# Altium integrated library Linear Technology Comparators.IntLib: 630 symbols (part 14 of 24)
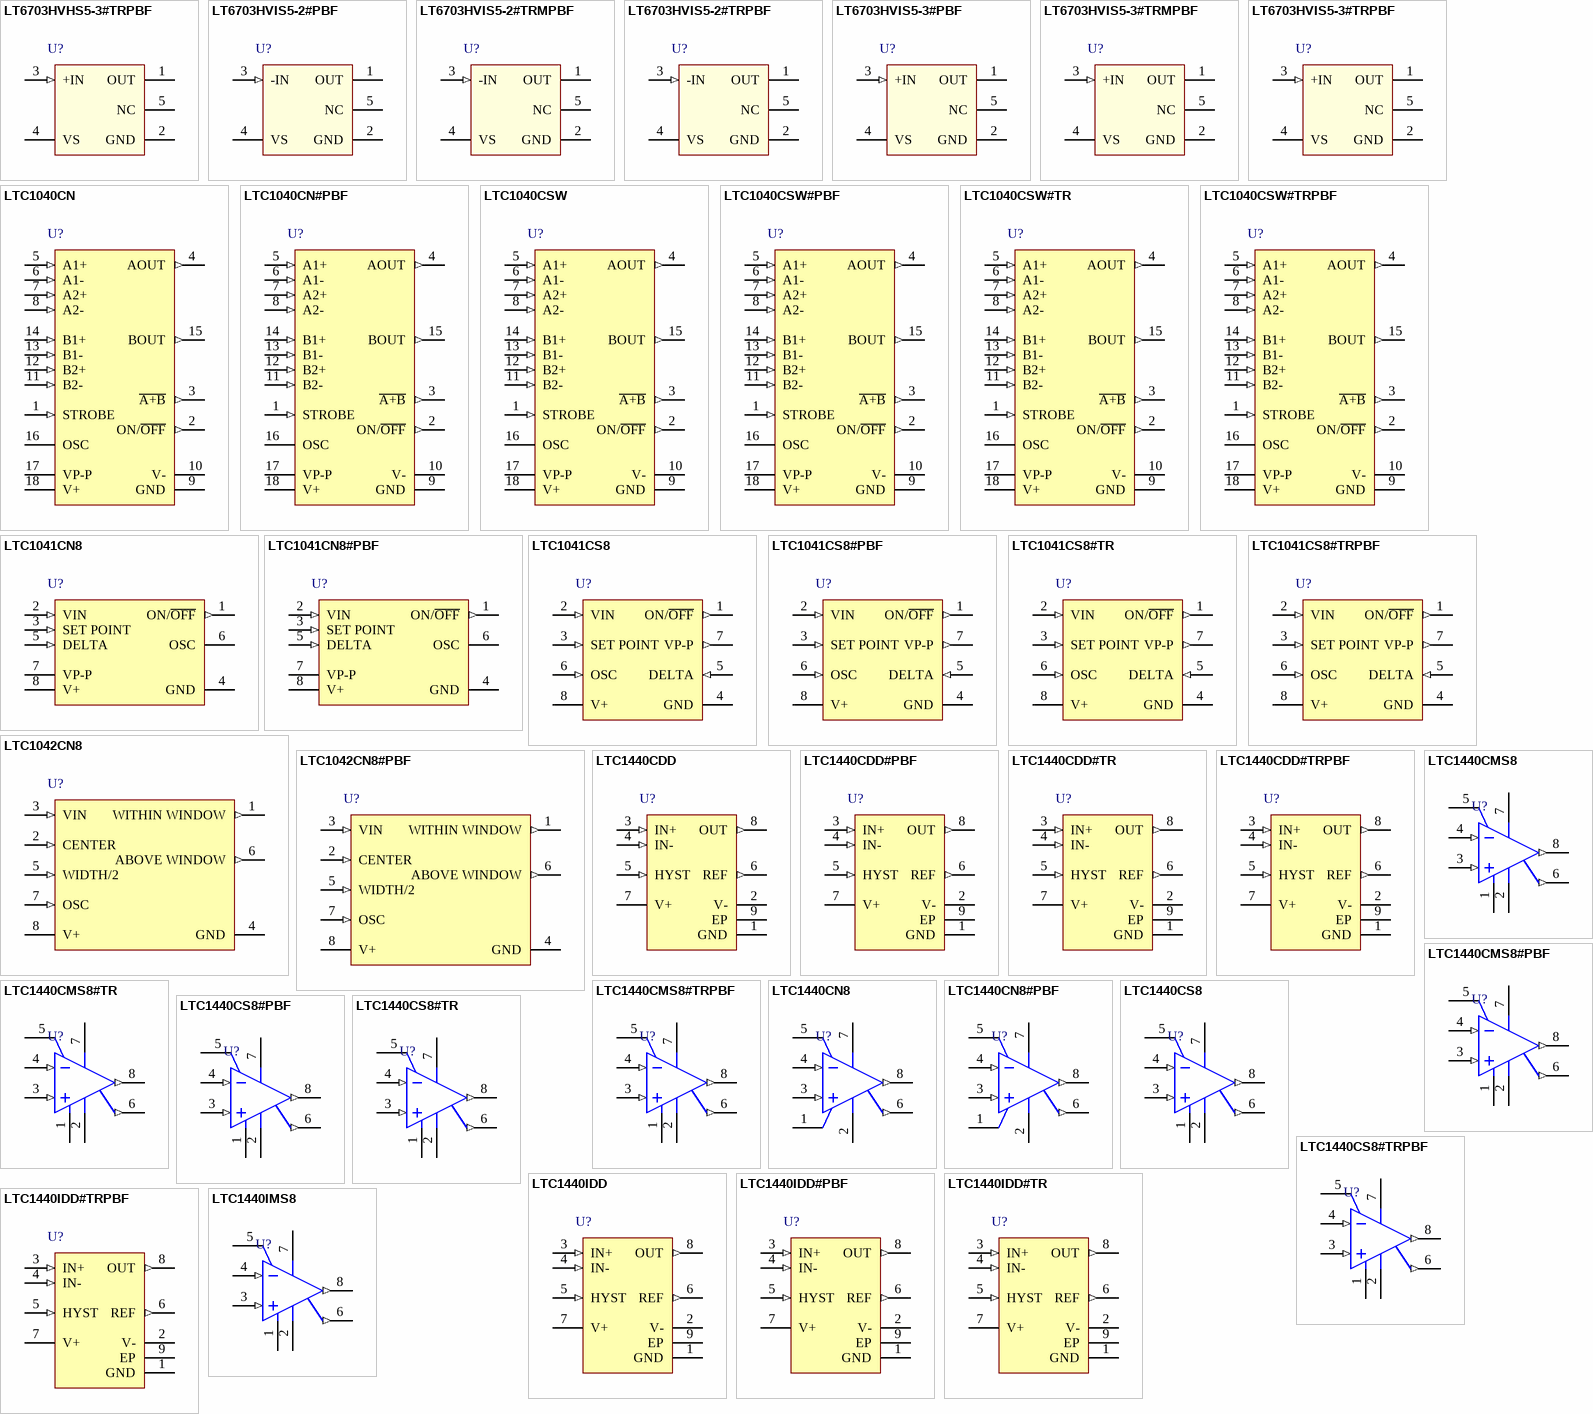
[diagram p37: symbols LT6703HVHS5-3#TRPBF to LTC1440IMS8]

## LTC1440CDD
designator U?
Ultralow Power Comparator with Reference, 1 Channel, 2 to 11 V, 0 to +70 degC, 8-pin DFN (DD8); Generic Part Number: LTC1440; Manufacturer: Linear Technology; PartNumber: LTC1440CDD; Channels (#): 1; Prop Delay (us): 8; Supply Current (uA) Guaranteed: 3.9; Supply Current (uA) Typical: 2; Supply Voltage Range: 2 to 11 V; Vos (mV) Guaranteed: 10; Vos (mV) Typical: 3; Vs Max (V): 11; DatasheetVersion: Rev D; PackageReference: DD8; PackageDescription: 8-Pin Plastic DFN, Body 3 × 3 mm, Pitch 0.5 mm; Features: Comparator, Reference, Comparator; RoHS: N; Vs Min (V): 2; Mounting Technology: Surface Mount; Code_JEDEC: M0-229; ComponentLink1Description: Manufacturer URL; ComponentLink1URL: http://www.linear.com/; ComponentLink2Description: Datasheet; ComponentLink2URL: http://cds.linear.com/docs/en/datasheet/144012fd.pdf; ComponentLink3Description: Package Specification; ComponentLink3URL: http://cds.linear.com/docs/en/packaging/DFN_8_05-08-1698.pdf
footprint LT-DD8_V (SON, 8-Leads, Body 3x3mm, Pitch 0.5mm, Thermal Pad 2.38x1.65mm)
pins: 1 GND (power) "Ground. Connect to V- for single supply operation.", 2 V- (power) "Negative Supply. Connect to ground for single supply operation. Potential should be more negative than GND.", 3 IN+ (in) "Noninverting Comparator Input. Input common mode range from V- to V+ -1.3V. Input current typically 10pA at 25degreesC.", 4 IN- (in) "Inverting Comparator Input. Input common mode range from V- to V + -1.3V. Input current typically 10pA at 25degreesC.", 5 HYST (in) "Hysteresis Input. Connect to REF if not used. Input voltage range is from VREF to VREF - 50mV.", 6 REF (out) "Reference Output. 1.182V with respect to V -. Can source up to 200uA and sink 15uA at 25degreesC. Drive 0.01uF bypass capacitor without oscillation.", 7 V+ (power) "Positive Supply. 2V to 11V.", 8 OUT (out) "Comparator CMOS Output. Swings from GND to V +. Output can source up to 40mA and sink 5mA.", 9 EP

## LTC1440CDD#PBF
designator U?
Ultralow Power Comparator with Reference, 1 Channel, 2 to 11 V, 0 to +70 degC, 8-pin DFN (DD8); Generic Part Number: LTC1440; Manufacturer: Linear Technology; PartNumber: LTC1440CDD#PBF; Channels (#): 1; Prop Delay (us): 8; Supply Current (uA) Guaranteed: 3.9; Supply Current (uA) Typical: 2; Supply Voltage Range: 2 to 11 V; Vos (mV) Guaranteed: 10; Vos (mV) Typical: 3; Vs Max (V): 11; DatasheetVersion: Rev D; PackageReference: DD8; PackageDescription: 8-Pin Plastic DFN, Body 3 × 3 mm, Pitch 0.5 mm; Supplier 1: Digi-Key; Supplier Part Number 1: LTC1440CDD#PBF-ND; Features: Comparator, Reference, Comparator; RoHS: Y; Vs Min (V): 2; Mounting Technology: Surface Mount; Code_JEDEC: M0-229; ComponentLink1Description: Manufacturer URL; ComponentLink1URL: http://www.linear.com/; ComponentLink2Description: Datasheet; ComponentLink2URL: http://cds.linear.com/docs/en/datasheet/144012fd.pdf; ComponentLink3Description: Package Specification; ComponentLink3URL: http://cds.linear.com/docs/en/packaging/DFN_8_05-08-1698.pdf
footprint LT-DD8_V (SON, 8-Leads, Body 3x3mm, Pitch 0.5mm, Thermal Pad 2.38x1.65mm)
pins: 1 GND (power) "Ground. Connect to V- for single supply operation.", 2 V- (power) "Negative Supply. Connect to ground for single supply operation. Potential should be more negative than GND.", 3 IN+ (in) "Noninverting Comparator Input. Input common mode range from V- to V+ -1.3V. Input current typically 10pA at 25degreesC.", 4 IN- (in) "Inverting Comparator Input. Input common mode range from V- to V + -1.3V. Input current typically 10pA at 25degreesC.", 5 HYST (in) "Hysteresis Input. Connect to REF if not used. Input voltage range is from VREF to VREF - 50mV.", 6 REF (out) "Reference Output. 1.182V with respect to V -. Can source up to 200uA and sink 15uA at 25degreesC. Drive 0.01uF bypass capacitor without oscillation.", 7 V+ (power) "Positive Supply. 2V to 11V.", 8 OUT (out) "Comparator CMOS Output. Swings from GND to V +. Output can source up to 40mA and sink 5mA.", 9 EP

## LTC1440CDD#TR
designator U?
Ultralow Power Comparator with Reference, 1 Channel, 2 to 11 V, 0 to +70 degC, 8-pin DFN (DD8), Tape and Reel; Generic Part Number: LTC1440; Manufacturer: Linear Technology; PartNumber: LTC1440CDD#TR; Channels (#): 1; Prop Delay (us): 8; Supply Current (uA) Guaranteed: 3.9; Supply Current (uA) Typical: 2; Supply Voltage Range: 2 to 11 V; Vos (mV) Guaranteed: 10; Vos (mV) Typical: 3; Vs Max (V): 11; DatasheetVersion: Rev D; PackageReference: DD8; PackageDescription: 8-Pin Plastic DFN, Body 3 × 3 mm, Pitch 0.5 mm; Features: Comparator, Reference, Comparator; RoHS: N; Vs Min (V): 2; Mounting Technology: Surface Mount; Code_JEDEC: M0-229; ComponentLink1Description: Manufacturer URL; ComponentLink1URL: http://www.linear.com/; ComponentLink2Description: Datasheet; ComponentLink2URL: http://cds.linear.com/docs/en/datasheet/144012fd.pdf; ComponentLink3Description: Package Specification; ComponentLink3URL: http://cds.linear.com/docs/en/packaging/DFN_8_05-08-1698.pdf
footprint LT-DD8_V (SON, 8-Leads, Body 3x3mm, Pitch 0.5mm, Thermal Pad 2.38x1.65mm)
pins: 1 GND (power) "Ground. Connect to V- for single supply operation.", 2 V- (power) "Negative Supply. Connect to ground for single supply operation. Potential should be more negative than GND.", 3 IN+ (in) "Noninverting Comparator Input. Input common mode range from V- to V+ -1.3V. Input current typically 10pA at 25degreesC.", 4 IN- (in) "Inverting Comparator Input. Input common mode range from V- to V + -1.3V. Input current typically 10pA at 25degreesC.", 5 HYST (in) "Hysteresis Input. Connect to REF if not used. Input voltage range is from VREF to VREF - 50mV.", 6 REF (out) "Reference Output. 1.182V with respect to V -. Can source up to 200uA and sink 15uA at 25degreesC. Drive 0.01uF bypass capacitor without oscillation.", 7 V+ (power) "Positive Supply. 2V to 11V.", 8 OUT (out) "Comparator CMOS Output. Swings from GND to V +. Output can source up to 40mA and sink 5mA.", 9 EP

## LTC1440CDD#TRPBF
designator U?
Ultralow Power Comparator with Reference, 1 Channel, 2 to 11 V, 0 to +70 degC, 8-pin DFN (DD8), Tape and Reel; Generic Part Number: LTC1440; Manufacturer: Linear Technology; PartNumber: LTC1440CDD#TRPBF; Channels (#): 1; Prop Delay (us): 8; Supply Current (uA) Guaranteed: 3.9; Supply Current (uA) Typical: 2; Supply Voltage Range: 2 to 11 V; Vos (mV) Guaranteed: 10; Vos (mV) Typical: 3; Vs Max (V): 11; DatasheetVersion: Rev D; PackageReference: DD8; PackageDescription: 8-Pin Plastic DFN, Body 3 × 3 mm, Pitch 0.5 mm; Supplier 1: Digi-Key; Supplier Part Number 1: LTC1440CDD#TRPBF-ND; Features: Comparator, Reference, Comparator; RoHS: Y; Vs Min (V): 2; Mounting Technology: Surface Mount; Code_JEDEC: M0-229; ComponentLink1Description: Manufacturer URL; ComponentLink1URL: http://www.linear.com/; ComponentLink2Description: Datasheet; ComponentLink2URL: http://cds.linear.com/docs/en/datasheet/144012fd.pdf; ComponentLink3Description: Package Specification; ComponentLink3URL: http://cds.linear.com/docs/en/packaging/DFN_8_05-08-1698.pdf
footprint LT-DD8_V (SON, 8-Leads, Body 3x3mm, Pitch 0.5mm, Thermal Pad 2.38x1.65mm)
pins: 1 GND (power) "Ground. Connect to V- for single supply operation.", 2 V- (power) "Negative Supply. Connect to ground for single supply operation. Potential should be more negative than GND.", 3 IN+ (in) "Noninverting Comparator Input. Input common mode range from V- to V+ -1.3V. Input current typically 10pA at 25degreesC.", 4 IN- (in) "Inverting Comparator Input. Input common mode range from V- to V + -1.3V. Input current typically 10pA at 25degreesC.", 5 HYST (in) "Hysteresis Input. Connect to REF if not used. Input voltage range is from VREF to VREF - 50mV.", 6 REF (out) "Reference Output. 1.182V with respect to V -. Can source up to 200uA and sink 15uA at 25degreesC. Drive 0.01uF bypass capacitor without oscillation.", 7 V+ (power) "Positive Supply. 2V to 11V.", 8 OUT (out) "Comparator CMOS Output. Swings from GND to V +. Output can source up to 40mA and sink 5mA.", 9 EP

## LTC1440CMS8
designator U?
Ultralow Power Comparator with Reference, 1 Channel, 2 to 11 V, 0 to +70 degC, 8-pin MSOP (MS8); Generic Part Number: LTC1440; Manufacturer: Linear Technology; PartNumber: LTC1440CMS8; Channels (#): 1; Prop Delay (us): 8; Supply Current (uA) Guaranteed: 3.9; Supply Current (uA) Typical: 2; Supply Voltage Range: 2 to 11 V; Vos (mV) Guaranteed: 10; Vos (mV) Typical: 3; Vs Max (V): 11; DatasheetVersion: Rev D; PackageReference: MS8; PackageDescription: 8-Pin Plastic MSOP, Body 3 x 3 mm, Pitch 0.65 mm; Supplier 1: Digi-Key; Supplier Part Number 1: LTC1440CMS8-ND; Supplier 2: Newark; Supplier Part Number 2: 56M1180; Features: Comparator, Reference, Comparator; RoHS: N; Vs Min (V): 2; Mounting Technology: Surface Mount; ComponentLink1Description: Manufacturer URL; ComponentLink1URL: http://www.linear.com/; ComponentLink2Description: Datasheet; ComponentLink2URL: http://cds.linear.com/docs/en/datasheet/144012fd.pdf; ComponentLink3Description: Package Specification; ComponentLink3URL: http://cds.linear.com/docs/en/packaging/MSOP_8_05-08-1660.pdf
footprint LT-MS8_N (SOP, 8-Leads, Body 3x3mm, Pitch 0.65mm, IPC Medium Density)
footprint LT-MS8_L (SOP, 8-Leads, Body 3x3mm, Pitch 0.65mm, IPC High Density)
footprint LT-MS8_M (SOP, 8-Leads, Body 3x3mm, Pitch 0.65mm, IPC Low Density)
pins: 1 GND (power), 2 V- (power), 3 IN+ (in), 4 IN- (in), 5 HYST, 6 REF (out), 7 V+ (power), 8 OUT (out)

## LTC1440CMS8#PBF
designator U?
Ultralow Power Comparator with Reference, 1 Channel, 2 to 11 V, 0 to +70 degC, 8-pin MSOP (MS8); Generic Part Number: LTC1440; Manufacturer: Linear Technology; PartNumber: LTC1440CMS8#PBF; Channels (#): 1; Prop Delay (us): 8; Supply Current (uA) Guaranteed: 3.9; Supply Current (uA) Typical: 2; Supply Voltage Range: 2 to 11 V; Vos (mV) Guaranteed: 10; Vos (mV) Typical: 3; Vs Max (V): 11; DatasheetVersion: Rev D; PackageReference: MS8; PackageDescription: 8-Pin Plastic MSOP, Body 3 x 3 mm, Pitch 0.65 mm; Supplier 1: Digi-Key; Supplier Part Number 1: LTC1440CMS8#PBF-ND; Supplier 2: Newark; Supplier Part Number 2: 56M1181; Features: Comparator, Reference, Comparator; RoHS: Y; Vs Min (V): 2; Mounting Technology: Surface Mount; ComponentLink1Description: Manufacturer URL; ComponentLink1URL: http://www.linear.com/; ComponentLink2Description: Datasheet; ComponentLink2URL: http://cds.linear.com/docs/en/datasheet/144012fd.pdf; ComponentLink3Description: Package Specification; ComponentLink3URL: http://cds.linear.com/docs/en/packaging/MSOP_8_05-08-1660.pdf
footprint LT-MS8_N (SOP, 8-Leads, Body 3x3mm, Pitch 0.65mm, IPC Medium Density)
footprint LT-MS8_L (SOP, 8-Leads, Body 3x3mm, Pitch 0.65mm, IPC High Density)
footprint LT-MS8_M (SOP, 8-Leads, Body 3x3mm, Pitch 0.65mm, IPC Low Density)
pins: 1 GND (power), 2 V- (power), 3 IN+ (in), 4 IN- (in), 5 HYST, 6 REF (out), 7 V+ (power), 8 OUT (out)

## LTC1440CMS8#TR
designator U?
Ultralow Power Comparator with Reference, 1 Channel, 2 to 11 V, 0 to +70 degC, 8-pin MSOP (MS8), Tape and Reel; Generic Part Number: LTC1440; Manufacturer: Linear Technology; PartNumber: LTC1440CMS8#TR; Channels (#): 1; Prop Delay (us): 8; Supply Current (uA) Guaranteed: 3.9; Supply Current (uA) Typical: 2.0; Supply Voltage Range: 2 to 11 V; Vos (mV) Guaranteed: 10; Vos (mV) Typical: 3; Vs Max (V): 11; Vs Min (V): 2; DatasheetVersion: Rev D; PackageReference: MS8; PackageDescription: 8-Pin Plastic MSOP, Body 3 x 3 mm, Pitch 0.65 mm; Supplier 1: Digi-Key; Supplier Part Number 1: LTC1440CMS8#TR-ND; Features: Comparator, Reference, Comparator; RoHS: N; Mounting Technology: Surface Mount; ComponentLink1Description: Manufacturer URL; ComponentLink1URL: http://www.linear.com/; ComponentLink2Description: Datasheet; ComponentLink2URL: http://cds.linear.com/docs/en/datasheet/144012fd.pdf; ComponentLink3Description: Package Specification; ComponentLink3URL: http://cds.linear.com/docs/en/packaging/MSOP_8_05-08-1660.pdf
footprint LT-MS8_N (SOP, 8-Leads, Body 3x3mm, Pitch 0.65mm, IPC Medium Density)
footprint LT-MS8_L (SOP, 8-Leads, Body 3x3mm, Pitch 0.65mm, IPC High Density)
footprint LT-MS8_M (SOP, 8-Leads, Body 3x3mm, Pitch 0.65mm, IPC Low Density)
pins: 1 GND (power), 2 V- (power), 3 IN+ (in), 4 IN- (in), 5 HYST, 6 REF (out), 7 V+ (power), 8 OUT (out)

## LTC1440CMS8#TRPBF
designator U?
Ultralow Power Comparator with Reference, 1 Channel, 2 to 11 V, 0 to +70 degC, 8-pin MSOP (MS8), Tape and Reel; Generic Part Number: LTC1440; Manufacturer: Linear Technology; PartNumber: LTC1440CMS8#TRPBF; Channels (#): 1; Prop Delay (us): 8; Supply Current (uA) Guaranteed: 3.9; Supply Current (uA) Typical: 2; Supply Voltage Range: 2 to 11 V; Vos (mV) Guaranteed: 10; Vos (mV) Typical: 3; Vs Max (V): 11; DatasheetVersion: Rev D; PackageReference: MS8; PackageDescription: 8-Pin Plastic MSOP, Body 3 x 3 mm, Pitch 0.65 mm; Supplier 1: Digi-Key; Supplier Part Number 1: LTC1440CMS8#TRPBF-ND; Supplier 2: Newark; Supplier Part Number 2: 56M1183; Features: Comparator, Reference, Comparator; RoHS: Y; Vs Min (V): 2; Mounting Technology: Surface Mount; ComponentLink1Description: Manufacturer URL; ComponentLink1URL: http://www.linear.com/; ComponentLink2Description: Datasheet; ComponentLink2URL: http://cds.linear.com/docs/en/datasheet/144012fd.pdf; ComponentLink3Description: Package Specification; ComponentLink3URL: http://cds.linear.com/docs/en/packaging/MSOP_8_05-08-1660.pdf
footprint LT-MS8_N (SOP, 8-Leads, Body 3x3mm, Pitch 0.65mm, IPC Medium Density)
footprint LT-MS8_L (SOP, 8-Leads, Body 3x3mm, Pitch 0.65mm, IPC High Density)
footprint LT-MS8_M (SOP, 8-Leads, Body 3x3mm, Pitch 0.65mm, IPC Low Density)
pins: 1 GND (power), 2 V- (power), 3 IN+ (in), 4 IN- (in), 5 HYST, 6 REF (out), 7 V+ (power), 8 OUT (out)

## LTC1440CN8
designator U?
Ultralow Power Comparator with Reference, 1 Channel, 2 to 11 V, 0 to +70 degC, 8-pin PDIP (N8); Generic Part Number: LTC1440; Manufacturer: Linear Technology; PartNumber: LTC1440CN8; Channels (#): 1; Prop Delay (us): 8; Supply Current (uA) Guaranteed: 3.9; Supply Current (uA) Typical: 2; Supply Voltage Range: 2 to 11 V; Vos (mV) Guaranteed: 10; Vos (mV) Typical: 3; Vs Max (V): 11; DatasheetVersion: Rev D; PackageReference: N8; PackageDescription: 8-Pin PDIP, Row Spacing 7.62, Pitch 2.54 mm; Supplier 1: Digi-Key; Supplier Part Number 1: LTC1440CN8-ND; Features: Comparator, Reference, Comparator; RoHS: N; Vs Min (V): 2; Mounting Technology: Through Hole; ComponentLink1Description: Manufacturer URL; ComponentLink1URL: http://www.linear.com/; ComponentLink2Description: Datasheet; ComponentLink2URL: http://cds.linear.com/docs/en/datasheet/144012fd.pdf; ComponentLink3Description: Package Specification; ComponentLink3URL: http://cds.linear.com/docs/en/packaging/05081510_I_N8.pdf
footprint LT-N8 (DIP, 8-Leads, Body 10.16x6.477mm, Pitch 2.54mm)
pins: 1 GND (power) "Ground. Connect to V- for single supply operation.", 2 V- (power) "Negative Supply. Connect to ground for single supply operation. Potential should be more negative than GND.", 3 IN+ (in) "Noninverting Comparator Input. Input common mode range from V- to V+ -1.3V. Input current typically 10pA at 25degreesC.", 4 IN- (in) "Inverting Comparator Input. Input common mode range from V- to V + -1.3V. Input current typically 10pA at 25degreesC.", 5 HYST "Hysteresis Input. Connect to REF if not used. Input voltage range is from VREF to VREF - 50mV.", 6 REF (out) "Reference Output. 1.182V with respect to V -. Can source up to 200uA and sink 15uA at 25degreesC. Drive 0.01uF bypass capacitor without oscillation.", 7 V+ (power) "Positive Supply. 2V to 11V.", 8 OUT (out) "Comparator CMOS Output. Swings from GND to V +. Output can source up to 40mA and sink 5mA."

## LTC1440CN8#PBF
designator U?
Ultralow Power Comparator with Reference, 1 Channel, 2 to 11 V, 0 to +70 degC, 8-pin PDIP (N8); Generic Part Number: LTC1440; Manufacturer: Linear Technology; PartNumber: LTC1440CN8#PBF; Channels (#): 1; Prop Delay (us): 8; Supply Current (uA) Guaranteed: 3.9; Supply Current (uA) Typical: 2; Supply Voltage Range: 2 to 11 V; Vos (mV) Guaranteed: 10; Vos (mV) Typical: 3; Vs Max (V): 11; DatasheetVersion: Rev D; PackageReference: N8; PackageDescription: 8-Pin PDIP, Row Spacing 7.62, Pitch 2.54 mm; Supplier 1: Digi-Key; Supplier Part Number 1: LTC1440CN8#PBF-ND; Supplier 2: Farnell; Supplier Part Number 2: 1136643; Supplier 3: Newark; Supplier Part Number 3: 56M1185; Features: Comparator, Reference, Comparator; RoHS: Y; Vs Min (V): 2; Mounting Technology: Through Hole; ComponentLink1Description: Manufacturer URL; ComponentLink1URL: http://www.linear.com/; ComponentLink2Description: Datasheet; ComponentLink2URL: http://cds.linear.com/docs/en/datasheet/144012fd.pdf; ComponentLink3Description: Package Specification; ComponentLink3URL: http://cds.linear.com/docs/en/packaging/05081510_I_N8.pdf
footprint LT-N8 (DIP, 8-Leads, Body 10.16x6.477mm, Pitch 2.54mm)
pins: 1 GND (power) "Ground. Connect to V- for single supply operation.", 2 V- (power) "Negative Supply. Connect to ground for single supply operation. Potential should be more negative than GND.", 3 IN+ (in) "Noninverting Comparator Input. Input common mode range from V- to V+ -1.3V. Input current typically 10pA at 25degreesC.", 4 IN- (in) "Inverting Comparator Input. Input common mode range from V- to V + -1.3V. Input current typically 10pA at 25degreesC.", 5 HYST "Hysteresis Input. Connect to REF if not used. Input voltage range is from VREF to VREF - 50mV.", 6 REF (out) "Reference Output. 1.182V with respect to V -. Can source up to 200uA and sink 15uA at 25degreesC. Drive 0.01uF bypass capacitor without oscillation.", 7 V+ (power) "Positive Supply. 2V to 11V.", 8 OUT (out) "Comparator CMOS Output. Swings from GND to V +. Output can source up to 40mA and sink 5mA."

## LTC1440CS8
designator U?
Ultralow Power Comparator with Reference, 1 Channel, 2 to 11 V, 0 to +70 degC, 8-pin SOP (S8); Generic Part Number: LTC1440; Manufacturer: Linear Technology; PartNumber: LTC1440CS8; Channels (#): 1; Prop Delay (us): 8; Supply Current (uA) Guaranteed: 3.9; Supply Current (uA) Typical: 2; Supply Voltage Range: 2 to 11 V; Vos (mV) Guaranteed: 10; Vos (mV) Typical: 3; Vs Max (V): 11; DatasheetVersion: Rev D; PackageReference: S8; PackageDescription: 8-Pin Plastic Small Outline (Narrow .150 Inch), Body 4.9 x 3.9 mm, Pitch 1.27 mm; Supplier 1: Digi-Key; Supplier Part Number 1: LTC1440CS8-ND; Features: Comparator, Reference, Comparator; RoHS: N; Vs Min (V): 2; Mounting Technology: Surface Mount; ComponentLink1Description: Manufacturer URL; ComponentLink1URL: http://www.linear.com/; ComponentLink2Description: Datasheet; ComponentLink2URL: http://cds.linear.com/docs/en/datasheet/144012fd.pdf; ComponentLink3Description: Package Specification; ComponentLink3URL: http://cds.linear.com/docs/en/packaging/05081610_G_SO8.pdf
footprint LT-S8_N (SOP, 8-Leads, Body 4.9x3.9mm, Pitch 1.27mm, IPC Medium Density)
footprint LT-S8_L (SOP, 8-Leads, Body 4.9x3.9mm, Pitch 1.27mm, IPC High Density)
footprint LT-S8_M (SOP, 8-Leads, Body 4.9x3.9mm, Pitch 1.27mm, IPC Low Density)
pins: 1 GND (power), 2 V- (power), 3 IN+ (in), 4 IN- (in), 5 HYST, 6 REF (out), 7 V+ (power), 8 OUT (out)

## LTC1440CS8#PBF
designator U?
Ultralow Power Comparator with Reference, 1 Channel, 2 to 11 V, 0 to +70 degC, 8-pin SOP (S8); Generic Part Number: LTC1440; Manufacturer: Linear Technology; PartNumber: LTC1440CS8#PBF; Channels (#): 1; Prop Delay (us): 8; Supply Current (uA) Guaranteed: 3.9; Supply Current (uA) Typical: 2; Supply Voltage Range: 2 to 11 V; Vos (mV) Guaranteed: 10; Vos (mV) Typical: 3; Vs Max (V): 11; DatasheetVersion: Rev D; PackageReference: S8; PackageDescription: 8-Pin Plastic Small Outline (Narrow .150 Inch), Body 4.9 x 3.9 mm, Pitch 1.27 mm; Supplier 1: Digi-Key; Supplier Part Number 1: LTC1440CS8#PBF-ND; Supplier 2: Farnell; Supplier Part Number 2: 9561145; Supplier 3: Newark; Supplier Part Number 3: 56M1187; Features: Comparator, Reference, Comparator; RoHS: Y; Vs Min (V): 2; Mounting Technology: Surface Mount; ComponentLink1Description: Manufacturer URL; ComponentLink1URL: http://www.linear.com/; ComponentLink2Description: Datasheet; ComponentLink2URL: http://cds.linear.com/docs/en/datasheet/144012fd.pdf; ComponentLink3Description: Package Specification; ComponentLink3URL: http://cds.linear.com/docs/en/packaging/05081610_G_SO8.pdf
footprint LT-S8_N (SOP, 8-Leads, Body 4.9x3.9mm, Pitch 1.27mm, IPC Medium Density)
footprint LT-S8_L (SOP, 8-Leads, Body 4.9x3.9mm, Pitch 1.27mm, IPC High Density)
footprint LT-S8_M (SOP, 8-Leads, Body 4.9x3.9mm, Pitch 1.27mm, IPC Low Density)
pins: 1 GND (power), 2 V- (power), 3 IN+ (in), 4 IN- (in), 5 HYST, 6 REF (out), 7 V+ (power), 8 OUT (out)

## LTC1440CS8#TR
designator U?
Ultralow Power Comparator with Reference, 1 Channel, 2 to 11 V, 0 to +70 degC, 8-pin SOP (S8), Tape and Reel; Generic Part Number: LTC1440; Manufacturer: Linear Technology; PartNumber: LTC1440CS8#TR; Channels (#): 1; Prop Delay (us): 8; Supply Current (uA) Guaranteed: 3.9; Supply Current (uA) Typical: 2; Supply Voltage Range: 2 to 11 V; Vos (mV) Guaranteed: 10; Vos (mV) Typical: 3; Vs Max (V): 11; DatasheetVersion: Rev D; PackageReference: S8; PackageDescription: 8-Pin Plastic Small Outline (Narrow .150 Inch), Body 4.9 x 3.9 mm, Pitch 1.27 mm; Supplier 1: Digi-Key; Supplier Part Number 1: LTC1440CS8#TR-ND; Features: Comparator, Reference, Comparator; RoHS: N; Vs Min (V): 2; Mounting Technology: Surface Mount; ComponentLink1Description: Manufacturer URL; ComponentLink1URL: http://www.linear.com/; ComponentLink2Description: Datasheet; ComponentLink2URL: http://cds.linear.com/docs/en/datasheet/144012fd.pdf; ComponentLink3Description: Package Specification; ComponentLink3URL: http://cds.linear.com/docs/en/packaging/05081610_G_SO8.pdf
footprint LT-S8_N (SOP, 8-Leads, Body 4.9x3.9mm, Pitch 1.27mm, IPC Medium Density)
footprint LT-S8_L (SOP, 8-Leads, Body 4.9x3.9mm, Pitch 1.27mm, IPC High Density)
footprint LT-S8_M (SOP, 8-Leads, Body 4.9x3.9mm, Pitch 1.27mm, IPC Low Density)
pins: 1 GND (power), 2 V- (power), 3 IN+ (in), 4 IN- (in), 5 HYST, 6 REF (out), 7 V+ (power), 8 OUT (out)

## LTC1440CS8#TRPBF
designator U?
Ultralow Power Comparator with Reference, 1 Channel, 2 to 11 V, 0 to +70 degC, 8-pin SOP (S8), Tape and Reel; Generic Part Number: LTC1440; Manufacturer: Linear Technology; PartNumber: LTC1440CS8#TRPBF; Channels (#): 1; Prop Delay (us): 8; Supply Current (uA) Guaranteed: 3.9; Supply Current (uA) Typical: 2; Supply Voltage Range: 2 to 11 V; Vos (mV) Guaranteed: 10; Vos (mV) Typical: 3; Vs Max (V): 11; DatasheetVersion: Rev D; PackageReference: S8; PackageDescription: 8-Pin Plastic Small Outline (Narrow .150 Inch), Body 4.9 x 3.9 mm, Pitch 1.27 mm; Supplier 1: Digi-Key; Supplier Part Number 1: LTC1440CS8#TRPBF-ND; Supplier 2: Newark; Supplier Part Number 2: 56M1189; Features: Comparator, Reference, Comparator; RoHS: Y; Vs Min (V): 2; Mounting Technology: Surface Mount; ComponentLink1Description: Manufacturer URL; ComponentLink1URL: http://www.linear.com/; ComponentLink2Description: Datasheet; ComponentLink2URL: http://cds.linear.com/docs/en/datasheet/144012fd.pdf; ComponentLink3Description: Package Specification; ComponentLink3URL: http://cds.linear.com/docs/en/packaging/05081610_G_SO8.pdf
footprint LT-S8_N (SOP, 8-Leads, Body 4.9x3.9mm, Pitch 1.27mm, IPC Medium Density)
footprint LT-S8_L (SOP, 8-Leads, Body 4.9x3.9mm, Pitch 1.27mm, IPC High Density)
footprint LT-S8_M (SOP, 8-Leads, Body 4.9x3.9mm, Pitch 1.27mm, IPC Low Density)
pins: 1 GND (power), 2 V- (power), 3 IN+ (in), 4 IN- (in), 5 HYST, 6 REF (out), 7 V+ (power), 8 OUT (out)

## LTC1440IDD
designator U?
Ultralow Power Comparator with Reference, 1 Channel, 2 to 11 V, -40 to +85 degC, 8-pin DFN (DD8); Generic Part Number: LTC1440; Manufacturer: Linear Technology; PartNumber: LTC1440IDD; Channels (#): 1; Prop Delay (us): 8; Supply Current (uA) Guaranteed: 3.9; Supply Current (uA) Typical: 2; Supply Voltage Range: 2 to 11 V; Vos (mV) Guaranteed: 10; Vos (mV) Typical: 3; Vs Max (V): 11; DatasheetVersion: Rev D; PackageReference: DD8; PackageDescription: 8-Pin Plastic DFN, Body 3 × 3 mm, Pitch 0.5 mm; Supplier 1: Newark; Supplier Part Number 1: 56M1190; Features: Comparator, Reference, Comparator; RoHS: N; Vs Min (V): 2; Mounting Technology: Surface Mount; Code_JEDEC: M0-229; ComponentLink1Description: Manufacturer URL; ComponentLink1URL: http://www.linear.com/; ComponentLink2Description: Datasheet; ComponentLink2URL: http://cds.linear.com/docs/en/datasheet/144012fd.pdf; ComponentLink3Description: Package Specification; ComponentLink3URL: http://cds.linear.com/docs/en/packaging/DFN_8_05-08-1698.pdf
footprint LT-DD8_V (SON, 8-Leads, Body 3x3mm, Pitch 0.5mm, Thermal Pad 2.38x1.65mm)
pins: 1 GND (power) "Ground. Connect to V- for single supply operation.", 2 V- (power) "Negative Supply. Connect to ground for single supply operation. Potential should be more negative than GND.", 3 IN+ (in) "Noninverting Comparator Input. Input common mode range from V- to V+ -1.3V. Input current typically 10pA at 25degreesC.", 4 IN- (in) "Inverting Comparator Input. Input common mode range from V- to V + -1.3V. Input current typically 10pA at 25degreesC.", 5 HYST (in) "Hysteresis Input. Connect to REF if not used. Input voltage range is from VREF to VREF - 50mV.", 6 REF (out) "Reference Output. 1.182V with respect to V -. Can source up to 200uA and sink 15uA at 25degreesC. Drive 0.01uF bypass capacitor without oscillation.", 7 V+ (power) "Positive Supply. 2V to 11V.", 8 OUT (out) "Comparator CMOS Output. Swings from GND to V +. Output can source up to 40mA and sink 5mA.", 9 EP

## LTC1440IDD#PBF
designator U?
Ultralow Power Comparator with Reference, 1 Channel, 2 to 11 V, -40 to +85 degC, 8-pin DFN (DD8); Generic Part Number: LTC1440; Manufacturer: Linear Technology; PartNumber: LTC1440IDD#PBF; Channels (#): 1; Prop Delay (us): 8; Supply Current (uA) Guaranteed: 3.9; Supply Current (uA) Typical: 2; Supply Voltage Range: 2 to 11 V; Vos (mV) Guaranteed: 10; Vos (mV) Typical: 3; Vs Max (V): 11; DatasheetVersion: Rev D; PackageReference: DD8; PackageDescription: 8-Pin Plastic DFN, Body 3 × 3 mm, Pitch 0.5 mm; Supplier 1: Digi-Key; Supplier Part Number 1: LTC1440IDD#PBF-ND; Supplier 2: Newark; Supplier Part Number 2: 56M1191; Features: Comparator, Reference, Comparator; RoHS: Y; Vs Min (V): 2; Mounting Technology: Surface Mount; Code_JEDEC: M0-229; ComponentLink1Description: Manufacturer URL; ComponentLink1URL: http://www.linear.com/; ComponentLink2Description: Datasheet; ComponentLink2URL: http://cds.linear.com/docs/en/datasheet/144012fd.pdf; ComponentLink3Description: Package Specification; ComponentLink3URL: http://cds.linear.com/docs/en/packaging/DFN_8_05-08-1698.pdf
footprint LT-DD8_V (SON, 8-Leads, Body 3x3mm, Pitch 0.5mm, Thermal Pad 2.38x1.65mm)
pins: 1 GND (power) "Ground. Connect to V- for single supply operation.", 2 V- (power) "Negative Supply. Connect to ground for single supply operation. Potential should be more negative than GND.", 3 IN+ (in) "Noninverting Comparator Input. Input common mode range from V- to V+ -1.3V. Input current typically 10pA at 25degreesC.", 4 IN- (in) "Inverting Comparator Input. Input common mode range from V- to V + -1.3V. Input current typically 10pA at 25degreesC.", 5 HYST (in) "Hysteresis Input. Connect to REF if not used. Input voltage range is from VREF to VREF - 50mV.", 6 REF (out) "Reference Output. 1.182V with respect to V -. Can source up to 200uA and sink 15uA at 25degreesC. Drive 0.01uF bypass capacitor without oscillation.", 7 V+ (power) "Positive Supply. 2V to 11V.", 8 OUT (out) "Comparator CMOS Output. Swings from GND to V +. Output can source up to 40mA and sink 5mA.", 9 EP

## LTC1440IDD#TR
designator U?
Ultralow Power Comparator with Reference, 1 Channel, 2 to 11 V, -40 to +85 degC, 8-pin DFN (DD8), Tape and Reel; Generic Part Number: LTC1440; Manufacturer: Linear Technology; PartNumber: LTC1440IDD#TR; Channels (#): 1; Prop Delay (us): 8; Supply Current (uA) Guaranteed: 3.9; Supply Current (uA) Typical: 2; Supply Voltage Range: 2 to 11 V; Vos (mV) Guaranteed: 10; Vos (mV) Typical: 3; Vs Max (V): 11; DatasheetVersion: Rev D; PackageReference: DD8; PackageDescription: 8-Pin Plastic DFN, Body 3 × 3 mm, Pitch 0.5 mm; Features: Comparator, Reference, Comparator; RoHS: N; Vs Min (V): 2; Mounting Technology: Surface Mount; Code_JEDEC: M0-229; ComponentLink1Description: Manufacturer URL; ComponentLink1URL: http://www.linear.com/; ComponentLink2Description: Datasheet; ComponentLink2URL: http://cds.linear.com/docs/en/datasheet/144012fd.pdf; ComponentLink3Description: Package Specification; ComponentLink3URL: http://cds.linear.com/docs/en/packaging/DFN_8_05-08-1698.pdf
footprint LT-DD8_V (SON, 8-Leads, Body 3x3mm, Pitch 0.5mm, Thermal Pad 2.38x1.65mm)
pins: 1 GND (power) "Ground. Connect to V- for single supply operation.", 2 V- (power) "Negative Supply. Connect to ground for single supply operation. Potential should be more negative than GND.", 3 IN+ (in) "Noninverting Comparator Input. Input common mode range from V- to V+ -1.3V. Input current typically 10pA at 25degreesC.", 4 IN- (in) "Inverting Comparator Input. Input common mode range from V- to V + -1.3V. Input current typically 10pA at 25degreesC.", 5 HYST (in) "Hysteresis Input. Connect to REF if not used. Input voltage range is from VREF to VREF - 50mV.", 6 REF (out) "Reference Output. 1.182V with respect to V -. Can source up to 200uA and sink 15uA at 25degreesC. Drive 0.01uF bypass capacitor without oscillation.", 7 V+ (power) "Positive Supply. 2V to 11V.", 8 OUT (out) "Comparator CMOS Output. Swings from GND to V +. Output can source up to 40mA and sink 5mA.", 9 EP

## LTC1440IDD#TRPBF
designator U?
Ultralow Power Comparator with Reference, 1 Channel, 2 to 11 V, -40 to +85 degC, 8-pin DFN (DD8), Tape and Reel; Generic Part Number: LTC1440; Manufacturer: Linear Technology; PartNumber: LTC1440IDD#TRPBF; Channels (#): 1; Prop Delay (us): 8; Supply Current (uA) Guaranteed: 3.9; Supply Current (uA) Typical: 2; Supply Voltage Range: 2 to 11 V; Vos (mV) Guaranteed: 10; Vos (mV) Typical: 3; Vs Max (V): 11; DatasheetVersion: Rev D; PackageReference: DD8; PackageDescription: 8-Pin Plastic DFN, Body 3 × 3 mm, Pitch 0.5 mm; Supplier 1: Digi-Key; Supplier Part Number 1: LTC1440IDD#TRPBF-ND; Supplier 2: Newark; Supplier Part Number 2: 56M1193; Features: Comparator, Reference, Comparator; RoHS: Y; Vs Min (V): 2; Mounting Technology: Surface Mount; Code_JEDEC: M0-229; ComponentLink1Description: Manufacturer URL; ComponentLink1URL: http://www.linear.com/; ComponentLink2Description: Datasheet; ComponentLink2URL: http://cds.linear.com/docs/en/datasheet/144012fd.pdf; ComponentLink3Description: Package Specification; ComponentLink3URL: http://cds.linear.com/docs/en/packaging/DFN_8_05-08-1698.pdf
footprint LT-DD8_V (SON, 8-Leads, Body 3x3mm, Pitch 0.5mm, Thermal Pad 2.38x1.65mm)
pins: 1 GND (power) "Ground. Connect to V- for single supply operation.", 2 V- (power) "Negative Supply. Connect to ground for single supply operation. Potential should be more negative than GND.", 3 IN+ (in) "Noninverting Comparator Input. Input common mode range from V- to V+ -1.3V. Input current typically 10pA at 25degreesC.", 4 IN- (in) "Inverting Comparator Input. Input common mode range from V- to V + -1.3V. Input current typically 10pA at 25degreesC.", 5 HYST (in) "Hysteresis Input. Connect to REF if not used. Input voltage range is from VREF to VREF - 50mV.", 6 REF (out) "Reference Output. 1.182V with respect to V -. Can source up to 200uA and sink 15uA at 25degreesC. Drive 0.01uF bypass capacitor without oscillation.", 7 V+ (power) "Positive Supply. 2V to 11V.", 8 OUT (out) "Comparator CMOS Output. Swings from GND to V +. Output can source up to 40mA and sink 5mA.", 9 EP

## LTC1440IMS8
designator U?
Ultralow Power Comparator with Reference, 1 Channel, 2 to 11 V, -40 to +85 degC, 8-pin MSOP (MS8); Generic Part Number: LTC1440; Manufacturer: Linear Technology; PartNumber: LTC1440IMS8; Channels (#): 1; Prop Delay (us): 8; Supply Current (uA) Guaranteed: 3.9; Supply Current (uA) Typical: 2; Supply Voltage Range: 2 to 11 V; Vos (mV) Guaranteed: 10; Vos (mV) Typical: 3; Vs Max (V): 11; DatasheetVersion: Rev D; PackageReference: MS8; PackageDescription: 8-Pin Plastic MSOP, Body 3 x 3 mm, Pitch 0.65 mm; Supplier 1: Newark; Supplier Part Number 1: 56M1194; Features: Comparator, Reference, Comparator; RoHS: N; Vs Min (V): 2; Mounting Technology: Surface Mount; ComponentLink1Description: Manufacturer URL; ComponentLink1URL: http://www.linear.com/; ComponentLink2Description: Datasheet; ComponentLink2URL: http://cds.linear.com/docs/en/datasheet/144012fd.pdf; ComponentLink3Description: Package Specification; ComponentLink3URL: http://cds.linear.com/docs/en/packaging/MSOP_8_05-08-1660.pdf
footprint LT-MS8_N (SOP, 8-Leads, Body 3x3mm, Pitch 0.65mm, IPC Medium Density)
footprint LT-MS8_L (SOP, 8-Leads, Body 3x3mm, Pitch 0.65mm, IPC High Density)
footprint LT-MS8_M (SOP, 8-Leads, Body 3x3mm, Pitch 0.65mm, IPC Low Density)
pins: 1 GND (power), 2 V- (power), 3 IN+ (in), 4 IN- (in), 5 HYST, 6 REF (out), 7 V+ (power), 8 OUT (out)

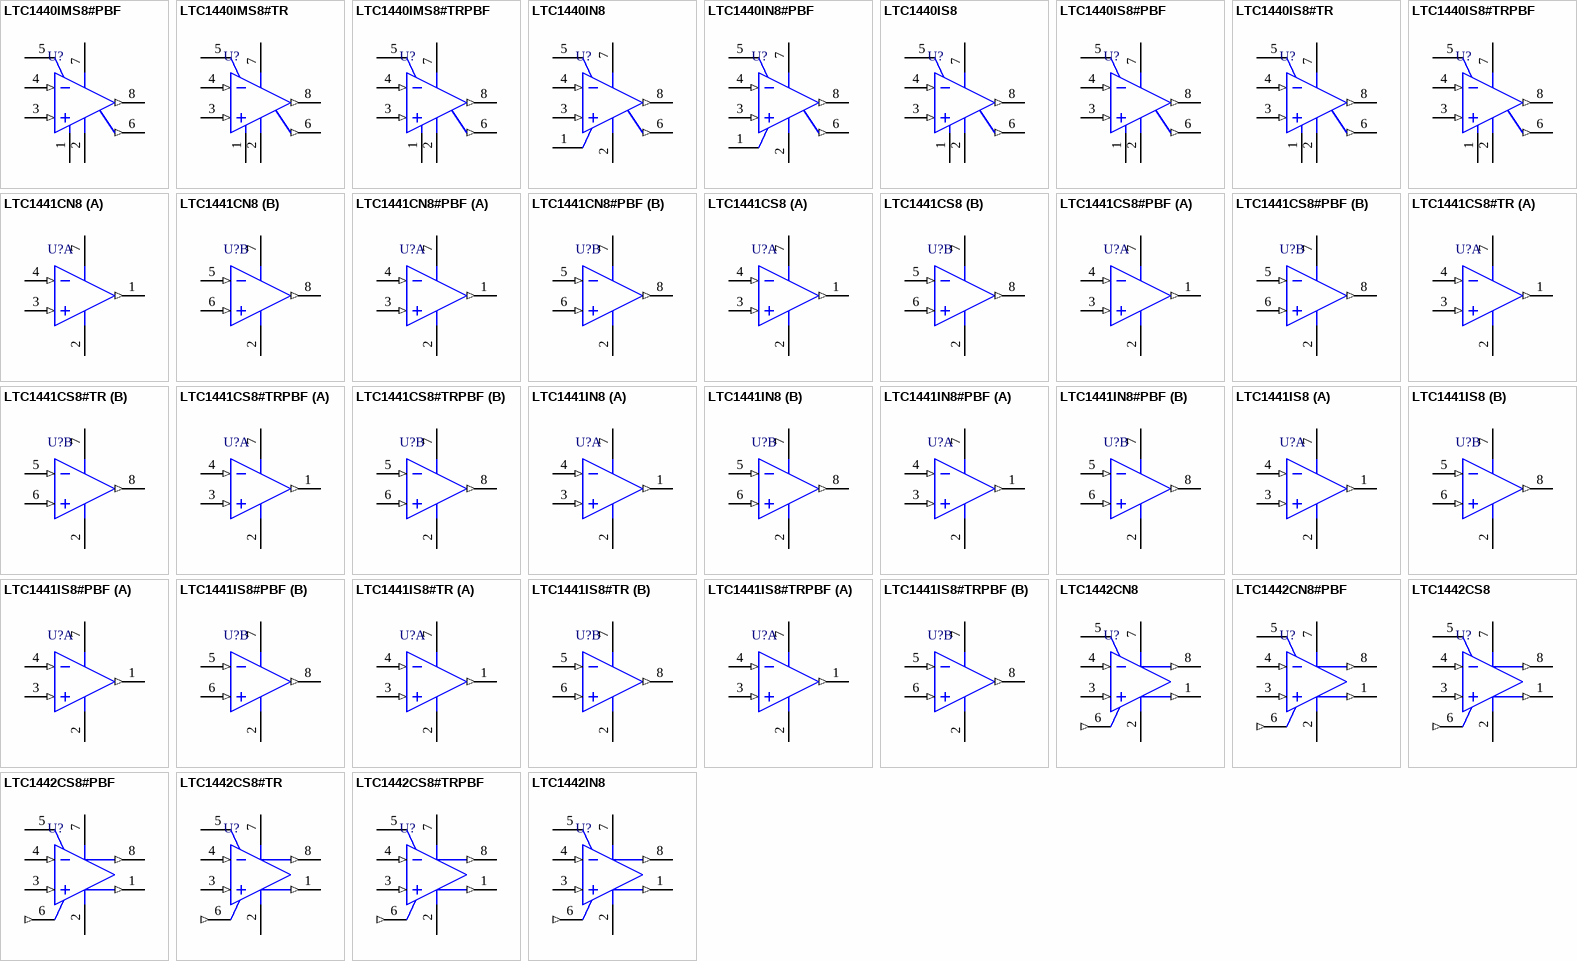
[diagram p13: symbols LTC1440IMS8#PBF to LTC1442IN8]

## LTC1440IMS8#PBF
designator U?
Ultralow Power Comparator with Reference, 1 Channel, 2 to 11 V, -40 to +85 degC, 8-pin MSOP (MS8); Generic Part Number: LTC1440; Manufacturer: Linear Technology; PartNumber: LTC1440IMS8#PBF; Channels (#): 1; Prop Delay (us): 8; Supply Current (uA) Guaranteed: 3.9; Supply Current (uA) Typical: 2; Supply Voltage Range: 2 to 11 V; Vos (mV) Guaranteed: 10; Vos (mV) Typical: 3; Vs Max (V): 11; DatasheetVersion: Rev D; PackageReference: MS8; PackageDescription: 8-Pin Plastic MSOP, Body 3 x 3 mm, Pitch 0.65 mm; Supplier 1: Digi-Key; Supplier Part Number 1: LTC1440IMS8#PBF-ND; Supplier 2: Newark; Supplier Part Number 2: 56M1195; Features: Comparator, Reference, Comparator; RoHS: Y; Vs Min (V): 2; Mounting Technology: Surface Mount; ComponentLink1Description: Manufacturer URL; ComponentLink1URL: http://www.linear.com/; ComponentLink2Description: Datasheet; ComponentLink2URL: http://cds.linear.com/docs/en/datasheet/144012fd.pdf; ComponentLink3Description: Package Specification; ComponentLink3URL: http://cds.linear.com/docs/en/packaging/MSOP_8_05-08-1660.pdf
footprint LT-MS8_N (SOP, 8-Leads, Body 3x3mm, Pitch 0.65mm, IPC Medium Density)
footprint LT-MS8_L (SOP, 8-Leads, Body 3x3mm, Pitch 0.65mm, IPC High Density)
footprint LT-MS8_M (SOP, 8-Leads, Body 3x3mm, Pitch 0.65mm, IPC Low Density)
pins: 1 GND (power), 2 V- (power), 3 IN+ (in), 4 IN- (in), 5 HYST, 6 REF (out), 7 V+ (power), 8 OUT (out)

## LTC1440IMS8#TR
designator U?
Ultralow Power Comparator with Reference, 1 Channel, 2 to 11 V, -40 to +85 degC, 8-pin MSOP (MS8), Tape and Reel; Generic Part Number: LTC1440; Manufacturer: Linear Technology; PartNumber: LTC1440IMS8#TR; Channels (#): 1; Prop Delay (us): 8; Supply Current (uA) Guaranteed: 3.9; Supply Current (uA) Typical: 2; Supply Voltage Range: 2 to 11 V; Vos (mV) Guaranteed: 10; Vos (mV) Typical: 3; Vs Max (V): 11; DatasheetVersion: Rev D; PackageReference: MS8; PackageDescription: 8-Pin Plastic MSOP, Body 3 x 3 mm, Pitch 0.65 mm; Features: Comparator, Reference, Comparator; RoHS: N; Vs Min (V): 2; Mounting Technology: Surface Mount; ComponentLink1Description: Manufacturer URL; ComponentLink1URL: http://www.linear.com/; ComponentLink2Description: Datasheet; ComponentLink2URL: http://cds.linear.com/docs/en/datasheet/144012fd.pdf; ComponentLink3Description: Package Specification; ComponentLink3URL: http://cds.linear.com/docs/en/packaging/MSOP_8_05-08-1660.pdf
footprint LT-MS8_N (SOP, 8-Leads, Body 3x3mm, Pitch 0.65mm, IPC Medium Density)
footprint LT-MS8_L (SOP, 8-Leads, Body 3x3mm, Pitch 0.65mm, IPC High Density)
footprint LT-MS8_M (SOP, 8-Leads, Body 3x3mm, Pitch 0.65mm, IPC Low Density)
pins: 1 GND (power), 2 V- (power), 3 IN+ (in), 4 IN- (in), 5 HYST, 6 REF (out), 7 V+ (power), 8 OUT (out)

## LTC1440IMS8#TRPBF
designator U?
Ultralow Power Comparator with Reference, 1 Channel, 2 to 11 V, -40 to +85 degC, 8-pin MSOP (MS8), Tape and Reel; Generic Part Number: LTC1440; Manufacturer: Linear Technology; PartNumber: LTC1440IMS8#TRPBF; Channels (#): 1; Prop Delay (us): 8; Supply Current (uA) Guaranteed: 3.9; Supply Current (uA) Typical: 2; Supply Voltage Range: 2 to 11 V; Vos (mV) Guaranteed: 10; Vos (mV) Typical: 3; Vs Max (V): 11; DatasheetVersion: Rev D; PackageReference: MS8; PackageDescription: 8-Pin Plastic MSOP, Body 3 x 3 mm, Pitch 0.65 mm; Supplier 1: Digi-Key; Supplier Part Number 1: LTC1440IMS8#TRPBF-ND; Supplier 2: Newark; Supplier Part Number 2: 56M1197; Features: Comparator, Reference, Comparator; RoHS: Y; Vs Min (V): 2; Mounting Technology: Surface Mount; ComponentLink1Description: Manufacturer URL; ComponentLink1URL: http://www.linear.com/; ComponentLink2Description: Datasheet; ComponentLink2URL: http://cds.linear.com/docs/en/datasheet/144012fd.pdf; ComponentLink3Description: Package Specification; ComponentLink3URL: http://cds.linear.com/docs/en/packaging/MSOP_8_05-08-1660.pdf
footprint LT-MS8_N (SOP, 8-Leads, Body 3x3mm, Pitch 0.65mm, IPC Medium Density)
footprint LT-MS8_L (SOP, 8-Leads, Body 3x3mm, Pitch 0.65mm, IPC High Density)
footprint LT-MS8_M (SOP, 8-Leads, Body 3x3mm, Pitch 0.65mm, IPC Low Density)
pins: 1 GND (power), 2 V- (power), 3 IN+ (in), 4 IN- (in), 5 HYST, 6 REF (out), 7 V+ (power), 8 OUT (out)

## LTC1440IN8
designator U?
Ultralow Power Comparator with Reference, 1 Channel, 2 to 11 V, -40 to +85 degC, 8-pin (N8); Generic Part Number: LTC1440; Manufacturer: Linear Technology; PartNumber: LTC1440IN8; Channels (#): 1; Prop Delay (us): 8; Supply Current (uA) Guaranteed: 3.9; Supply Current (uA) Typical: 2; Supply Voltage Range: 2 to 11 V; Vos (mV) Guaranteed: 10; Vos (mV) Typical: 3; Vs Max (V): 11; DatasheetVersion: Rev D; PackageReference: N8; PackageDescription: 8-Pin PDIP, Row Spacing 7.62, Pitch 2.54 mm; Supplier 1: Digi-Key; Supplier Part Number 1: LTC1440IN8-ND; Features: Comparator, Reference, Comparator; RoHS: N; Vs Min (V): 2; Mounting Technology: Through Hole; ComponentLink1Description: Manufacturer URL; ComponentLink1URL: http://www.linear.com/; ComponentLink2Description: Datasheet; ComponentLink2URL: http://cds.linear.com/docs/en/datasheet/144012fd.pdf; ComponentLink3Description: Package Specification; ComponentLink3URL: http://cds.linear.com/docs/en/packaging/05081510_I_N8.pdf
footprint LT-N8 (DIP, 8-Leads, Body 10.16x6.477mm, Pitch 2.54mm)
pins: 1 GND (power) "Ground. Connect to V- for single supply operation.", 2 V- (power) "Negative Supply. Connect to ground for single supply operation. Potential should be more negative than GND.", 3 IN+ (in) "Noninverting Comparator Input. Input common mode range from V- to V+ -1.3V. Input current typically 10pA at 25degreesC.", 4 IN- (in) "Inverting Comparator Input. Input common mode range from V- to V + -1.3V. Input current typically 10pA at 25degreesC.", 5 HYST "Hysteresis Input. Connect to REF if not used. Input voltage range is from VREF to VREF - 50mV.", 6 REF (out) "Reference Output. 1.182V with respect to V -. Can source up to 200uA and sink 15uA at 25degreesC. Drive 0.01uF bypass capacitor without oscillation.", 7 V+ (power) "Positive Supply. 2V to 11V.", 8 OUT (out) "Comparator CMOS Output. Swings from GND to V +. Output can source up to 40mA and sink 5mA."

## LTC1440IN8#PBF
designator U?
Ultralow Power Comparator with Reference, 1 Channel, 2 to 11 V, -40 to +85 degC, 8-pin (N8); Generic Part Number: LTC1440; Manufacturer: Linear Technology; PartNumber: LTC1440IN8#PBF; Channels (#): 1; Prop Delay (us): 8; Supply Current (uA) Guaranteed: 3.9; Supply Current (uA) Typical: 2; Supply Voltage Range: 2 to 11 V; Vos (mV) Guaranteed: 10; Vos (mV) Typical: 3; Vs Max (V): 11; DatasheetVersion: Rev D; PackageReference: N8; PackageDescription: 8-Pin PDIP, Row Spacing 7.62, Pitch 2.54 mm; Supplier 1: Digi-Key; Supplier Part Number 1: LTC1440IN8#PBF-ND; Features: Comparator, Reference, Comparator; RoHS: Y; Vs Min (V): 2; Mounting Technology: Through Hole; ComponentLink1Description: Manufacturer URL; ComponentLink1URL: http://www.linear.com/; ComponentLink2Description: Datasheet; ComponentLink2URL: http://cds.linear.com/docs/en/datasheet/144012fd.pdf; ComponentLink3Description: Package Specification; ComponentLink3URL: http://cds.linear.com/docs/en/packaging/05081510_I_N8.pdf
footprint LT-N8 (DIP, 8-Leads, Body 10.16x6.477mm, Pitch 2.54mm)
pins: 1 GND (power) "Ground. Connect to V- for single supply operation.", 2 V- (power) "Negative Supply. Connect to ground for single supply operation. Potential should be more negative than GND.", 3 IN+ (in) "Noninverting Comparator Input. Input common mode range from V- to V+ -1.3V. Input current typically 10pA at 25degreesC.", 4 IN- (in) "Inverting Comparator Input. Input common mode range from V- to V + -1.3V. Input current typically 10pA at 25degreesC.", 5 HYST "Hysteresis Input. Connect to REF if not used. Input voltage range is from VREF to VREF - 50mV.", 6 REF (out) "Reference Output. 1.182V with respect to V -. Can source up to 200uA and sink 15uA at 25degreesC. Drive 0.01uF bypass capacitor without oscillation.", 7 V+ (power) "Positive Supply. 2V to 11V.", 8 OUT (out) "Comparator CMOS Output. Swings from GND to V +. Output can source up to 40mA and sink 5mA."

## LTC1440IS8
designator U?
Ultralow Power Comparator with Reference, 1 Channel, 2 to 11 V, -40 to +85 degC, 8-pin SOP (S8); Generic Part Number: LTC1440; Manufacturer: Linear Technology; PartNumber: LTC1440IS8; Channels (#): 1; Prop Delay (us): 8; Supply Current (uA) Guaranteed: 3.9; Supply Current (uA) Typical: 2; Supply Voltage Range: 2 to 11 V; Vos (mV) Guaranteed: 10; Vos (mV) Typical: 3; Vs Max (V): 11; DatasheetVersion: Rev D; PackageReference: S8; PackageDescription: 8-Pin Plastic Small Outline (Narrow .150 Inch), Body 4.9 x 3.9 mm, Pitch 1.27 mm; Supplier 1: Digi-Key; Supplier Part Number 1: LTC1440IS8-ND; Supplier 2: Newark; Supplier Part Number 2: 56M1200; Features: Comparator, Reference, Comparator; RoHS: N; Vs Min (V): 2; Mounting Technology: Surface Mount; ComponentLink1Description: Manufacturer URL; ComponentLink1URL: http://www.linear.com/; ComponentLink2Description: Datasheet; ComponentLink2URL: http://cds.linear.com/docs/en/datasheet/144012fd.pdf; ComponentLink3Description: Package Specification; ComponentLink3URL: http://cds.linear.com/docs/en/packaging/05081610_G_SO8.pdf
footprint LT-S8_N (SOP, 8-Leads, Body 4.9x3.9mm, Pitch 1.27mm, IPC Medium Density)
footprint LT-S8_L (SOP, 8-Leads, Body 4.9x3.9mm, Pitch 1.27mm, IPC High Density)
footprint LT-S8_M (SOP, 8-Leads, Body 4.9x3.9mm, Pitch 1.27mm, IPC Low Density)
pins: 1 GND (power), 2 V- (power), 3 IN+ (in), 4 IN- (in), 5 HYST, 6 REF (out), 7 V+ (power), 8 OUT (out)

## LTC1440IS8#PBF
designator U?
Ultralow Power Comparator with Reference, 1 Channel, 2 to 11 V, -40 to +85 degC, 8-pin SOP (S8); Generic Part Number: LTC1440; Manufacturer: Linear Technology; PartNumber: LTC1440IS8#PBF; Channels (#): 1; Prop Delay (us): 8; Supply Current (uA) Guaranteed: 3.9; Supply Current (uA) Typical: 2; Supply Voltage Range: 2 to 11 V; Vos (mV) Guaranteed: 10; Vos (mV) Typical: 3; Vs Max (V): 11; DatasheetVersion: Rev D; PackageReference: S8; PackageDescription: 8-Pin Plastic Small Outline (Narrow .150 Inch), Body 4.9 x 3.9 mm, Pitch 1.27 mm; Supplier 1: Digi-Key; Supplier Part Number 1: LTC1440IS8#PBF-ND; Supplier 2: Farnell; Supplier Part Number 2: 1663623; Supplier 3: Newark; Supplier Part Number 3: 56M1201; Features: Comparator, Reference, Comparator; RoHS: Y; Vs Min (V): 2; Mounting Technology: Surface Mount; ComponentLink1Description: Manufacturer URL; ComponentLink1URL: http://www.linear.com/; ComponentLink2Description: Datasheet; ComponentLink2URL: http://cds.linear.com/docs/en/datasheet/144012fd.pdf; ComponentLink3Description: Package Specification; ComponentLink3URL: http://cds.linear.com/docs/en/packaging/05081610_G_SO8.pdf
footprint LT-S8_N (SOP, 8-Leads, Body 4.9x3.9mm, Pitch 1.27mm, IPC Medium Density)
footprint LT-S8_L (SOP, 8-Leads, Body 4.9x3.9mm, Pitch 1.27mm, IPC High Density)
footprint LT-S8_M (SOP, 8-Leads, Body 4.9x3.9mm, Pitch 1.27mm, IPC Low Density)
pins: 1 GND (power), 2 V- (power), 3 IN+ (in), 4 IN- (in), 5 HYST, 6 REF (out), 7 V+ (power), 8 OUT (out)

## LTC1440IS8#TR
designator U?
Ultralow Power Comparator with Reference, 1 Channel, 2 to 11 V, -40 to +85 degC, 8-pin SOP (S8), Tape and Reel; Generic Part Number: LTC1440; Manufacturer: Linear Technology; PartNumber: LTC1440IS8#TR; Channels (#): 1; Prop Delay (us): 8; Supply Current (uA) Guaranteed: 3.9; Supply Current (uA) Typical: 2; Supply Voltage Range: 2 to 11 V; Vos (mV) Guaranteed: 10; Vos (mV) Typical: 3; Vs Max (V): 11; DatasheetVersion: Rev D; PackageReference: S8; PackageDescription: 8-Pin Plastic Small Outline (Narrow .150 Inch), Body 4.9 x 3.9 mm, Pitch 1.27 mm; Supplier 1: Digi-Key; Supplier Part Number 1: LTC1440IS8#TR-ND; Features: Comparator, Reference, Comparator; RoHS: N; Vs Min (V): 2; Mounting Technology: Surface Mount; ComponentLink1Description: Manufacturer URL; ComponentLink1URL: http://www.linear.com/; ComponentLink2Description: Datasheet; ComponentLink2URL: http://cds.linear.com/docs/en/datasheet/144012fd.pdf; ComponentLink3Description: Package Specification; ComponentLink3URL: http://cds.linear.com/docs/en/packaging/05081610_G_SO8.pdf
footprint LT-S8_N (SOP, 8-Leads, Body 4.9x3.9mm, Pitch 1.27mm, IPC Medium Density)
footprint LT-S8_L (SOP, 8-Leads, Body 4.9x3.9mm, Pitch 1.27mm, IPC High Density)
footprint LT-S8_M (SOP, 8-Leads, Body 4.9x3.9mm, Pitch 1.27mm, IPC Low Density)
pins: 1 GND (power), 2 V- (power), 3 IN+ (in), 4 IN- (in), 5 HYST, 6 REF (out), 7 V+ (power), 8 OUT (out)

## LTC1440IS8#TRPBF
designator U?
Ultralow Power Comparator with Reference, 1 Channel, 2 to 11 V, -40 to +85 degC, 8-pin SOP (S8), Tape and Reel; Generic Part Number: LTC1440; Manufacturer: Linear Technology; PartNumber: LTC1440IS8#TRPBF; Channels (#): 1; Prop Delay (us): 8; Supply Current (uA) Guaranteed: 3.9; Supply Current (uA) Typical: 2; Supply Voltage Range: 2 to 11 V; Vos (mV) Guaranteed: 10; Vos (mV) Typical: 3; Vs Max (V): 11; DatasheetVersion: Rev D; PackageReference: S8; PackageDescription: 8-Pin Plastic Small Outline (Narrow .150 Inch), Body 4.9 x 3.9 mm, Pitch 1.27 mm; Supplier 1: Digi-Key; Supplier Part Number 1: LTC1440IS8#TRPBF-ND; Supplier 2: Newark; Supplier Part Number 2: 56M1203; Features: Comparator, Reference, Comparator; RoHS: Y; Vs Min (V): 2; Mounting Technology: Surface Mount; ComponentLink1Description: Manufacturer URL; ComponentLink1URL: http://www.linear.com/; ComponentLink2Description: Datasheet; ComponentLink2URL: http://cds.linear.com/docs/en/datasheet/144012fd.pdf; ComponentLink3Description: Package Specification; ComponentLink3URL: http://cds.linear.com/docs/en/packaging/05081610_G_SO8.pdf
footprint LT-S8_N (SOP, 8-Leads, Body 4.9x3.9mm, Pitch 1.27mm, IPC Medium Density)
footprint LT-S8_L (SOP, 8-Leads, Body 4.9x3.9mm, Pitch 1.27mm, IPC High Density)
footprint LT-S8_M (SOP, 8-Leads, Body 4.9x3.9mm, Pitch 1.27mm, IPC Low Density)
pins: 1 GND (power), 2 V- (power), 3 IN+ (in), 4 IN- (in), 5 HYST, 6 REF (out), 7 V+ (power), 8 OUT (out)

## LTC1441CN8
designator U?
Ultralow Power Comparator with Reference, 2 Channels, 2 to 11 V, 0 to +70 degC, 8-pin PDIP (N8); Generic Part Number: LTC1441; Manufacturer: Linear Technology; PartNumber: LTC1441CN8; Channels (#): 2; Prop Delay (us): 8; Supply Current (uA) Guaranteed: 5.7; Supply Current (uA) Typical: 3.5; Supply Voltage Range: 2 to 11 V; Vos (mV) Guaranteed: 10; Vos (mV) Typical: 3; Vs Max (V): 11; DatasheetVersion: Rev D; PackageReference: N8; PackageDescription: 8-Pin PDIP, Row Spacing 7.62, Pitch 2.54 mm; Supplier 1: Digi-Key; Supplier Part Number 1: LTC1441CN8-ND; Features: Comparator; RoHS: N; Vs Min (V): 2; Mounting Technology: Through Hole; ComponentLink1Description: Manufacturer URL; ComponentLink1URL: http://www.linear.com/; ComponentLink2Description: Datasheet; ComponentLink2URL: http://cds.linear.com/docs/en/datasheet/144012fd.pdf; ComponentLink3Description: Package Specification; ComponentLink3URL: http://cds.linear.com/docs/en/packaging/05081510_I_N8.pdf
footprint LT-N8 (DIP, 8-Leads, Body 10.16x6.477mm, Pitch 2.54mm)
pins on every part: 2 V- (power), 7 V+ (power)
part A pins: 1 OUTA (out), 3 INA+ (in), 4 INA- (in)
part B pins: 5 INB- (in), 6 INB+ (in), 8 OUTB (out)

## LTC1441CN8#PBF
designator U?
Ultralow Power Comparator with Reference, 2 Channels, 2 to 11 V, 0 to +70 degC, 8-pin PDIP (N8); Generic Part Number: LTC1441; Manufacturer: Linear Technology; PartNumber: LTC1441CN8#PBF; Channels (#): 2; Prop Delay (us): 8; Supply Current (uA) Guaranteed: 5.7; Supply Current (uA) Typical: 3.5; Supply Voltage Range: 2 to 11 V; Vos (mV) Guaranteed: 10; Vos (mV) Typical: 3; Vs Max (V): 11; DatasheetVersion: Rev D; PackageReference: N8; PackageDescription: 8-Pin PDIP, Row Spacing 7.62, Pitch 2.54 mm; Supplier 1: Digi-Key; Supplier Part Number 1: LTC1441CN8#PBF-ND; Features: Comparator; RoHS: Y; Vs Min (V): 2; Mounting Technology: Through Hole; ComponentLink1Description: Manufacturer URL; ComponentLink1URL: http://www.linear.com/; ComponentLink2Description: Datasheet; ComponentLink2URL: http://cds.linear.com/docs/en/datasheet/144012fd.pdf; ComponentLink3Description: Package Specification; ComponentLink3URL: http://cds.linear.com/docs/en/packaging/05081510_I_N8.pdf
footprint LT-N8 (DIP, 8-Leads, Body 10.16x6.477mm, Pitch 2.54mm)
pins on every part: 2 V- (power), 7 V+ (power)
part A pins: 1 OUTA (out), 3 INA+ (in), 4 INA- (in)
part B pins: 5 INB- (in), 6 INB+ (in), 8 OUTB (out)